# EAGLE library part TEXAS_INSTRUMENTS-IGBT_DRIVER-UCC27710DR (library Module_ICs)
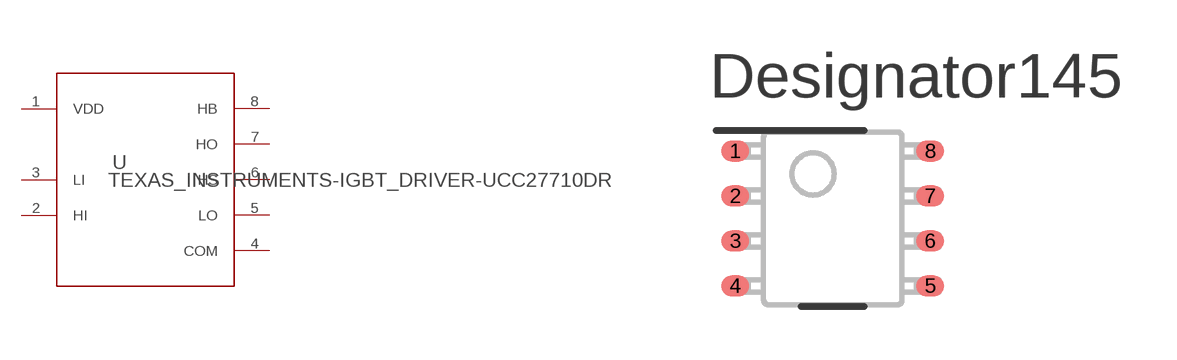
[diagram p50: symbol with the pads of TEXAS_INSTRUMENTS-IGBT_DRIVER-UCC27710DR; footprint TEXAS_INSTRUMENTS-IGBT_DRIVER-UCC27710DR]

Designator prefix U

## TEXAS_INSTRUMENTS-IGBT_DRIVER-UCC27710DR (MANUFACTURER: Texas Instruments; PARTNUMBER: UCC27710DR; REFDES: RefDes; TYPE: TYPE; VALUE: Value)  [TEXAS_INSTRUMENTS-IGBT_DRIVER-UCC27710DR]
1  VDD  pwr
2  HI  in
3  LI  in
4  COM  pwr
5  LO  out
6  HS  pas
7  HO  out
8  HB  pwr

## Footprint TEXAS_INSTRUMENTS-IGBT_DRIVER-UCC27710DR (pad centres in mm)
smd 0.797 x 0.6: 1 -2.756,1.905; 2 -2.756,0.635; 3 -2.756,-0.635; 4 -2.756,-1.905; 5 2.756,-1.905; 6 2.756,-0.635; 7 2.756,0.635; 8 2.756,1.905